# EAGLE library part CONN_6-1 (library pel_molex)
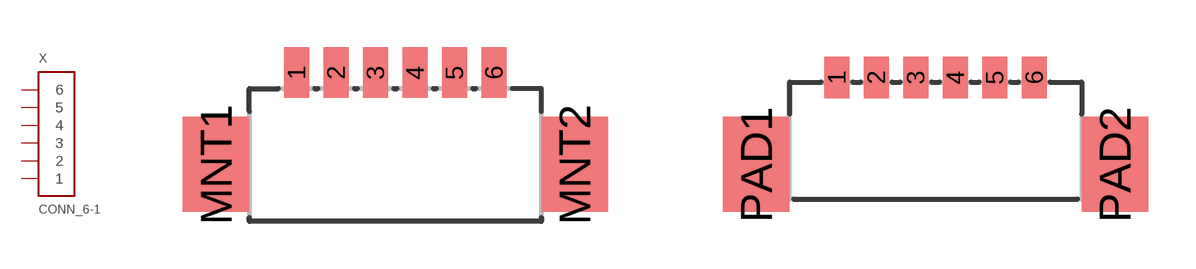
[diagram p1: symbol with the pads of PB-53261-06; footprints PB-53261-06, PB-53398-06]

Designator prefix X

## CONN_6-1-53261  [PB-53261-06]
1  1
2  2
3  3
4  4
5  5
6  6

## CONN_6-1-53398  [PB-53398-06]
Pads as for PB-53261-06

## CONN_6-1-53047  [PB-53047-06]
Pads as for PB-53261-06

## Footprint PB-53261-06 (pad centres in mm)
smd 0.8 x 1.6: 1 -3.125,1.1; 2 -1.875,1.1; 3 -0.625,1.1; 4 0.625,1.1; 5 1.875,1.1; 6 3.125,1.1
smd 2.1 x 3: MNT1 -5.675,-1.8; MNT2 5.675,-1.8

## Footprint PB-53398-06 (pad centres in mm)
smd 0.8 x 1.3: 1 -3.125,1.25; 2 -1.875,1.25; 3 -0.625,1.25; 4 0.625,1.25; 5 1.875,1.25; 6 3.125,1.25
smd 2.1 x 3: PAD1 -5.675,-1.5; PAD2 5.675,-1.5

## Footprint PB-53047-06 (pad centres in mm)
drill 0.5: 1 -3.125,0; 2 -1.875,0; 3 -0.625,0; 4 0.625,0; 5 1.875,0; 6 3.125,0